# Altium footprint library Connector-XH.PcbLib: 22 footprints (part 1 of 2)
Each footprint in its own frame and in the unit in brackets; x right, y up, seen from the top. Pads: shape width x height; smd on the part's side, far side on the other; paste and mask are expansions set on the pad; w line width, h text height; cw(c..) or ccw(c..) is an arc to the next point about the centre after c.
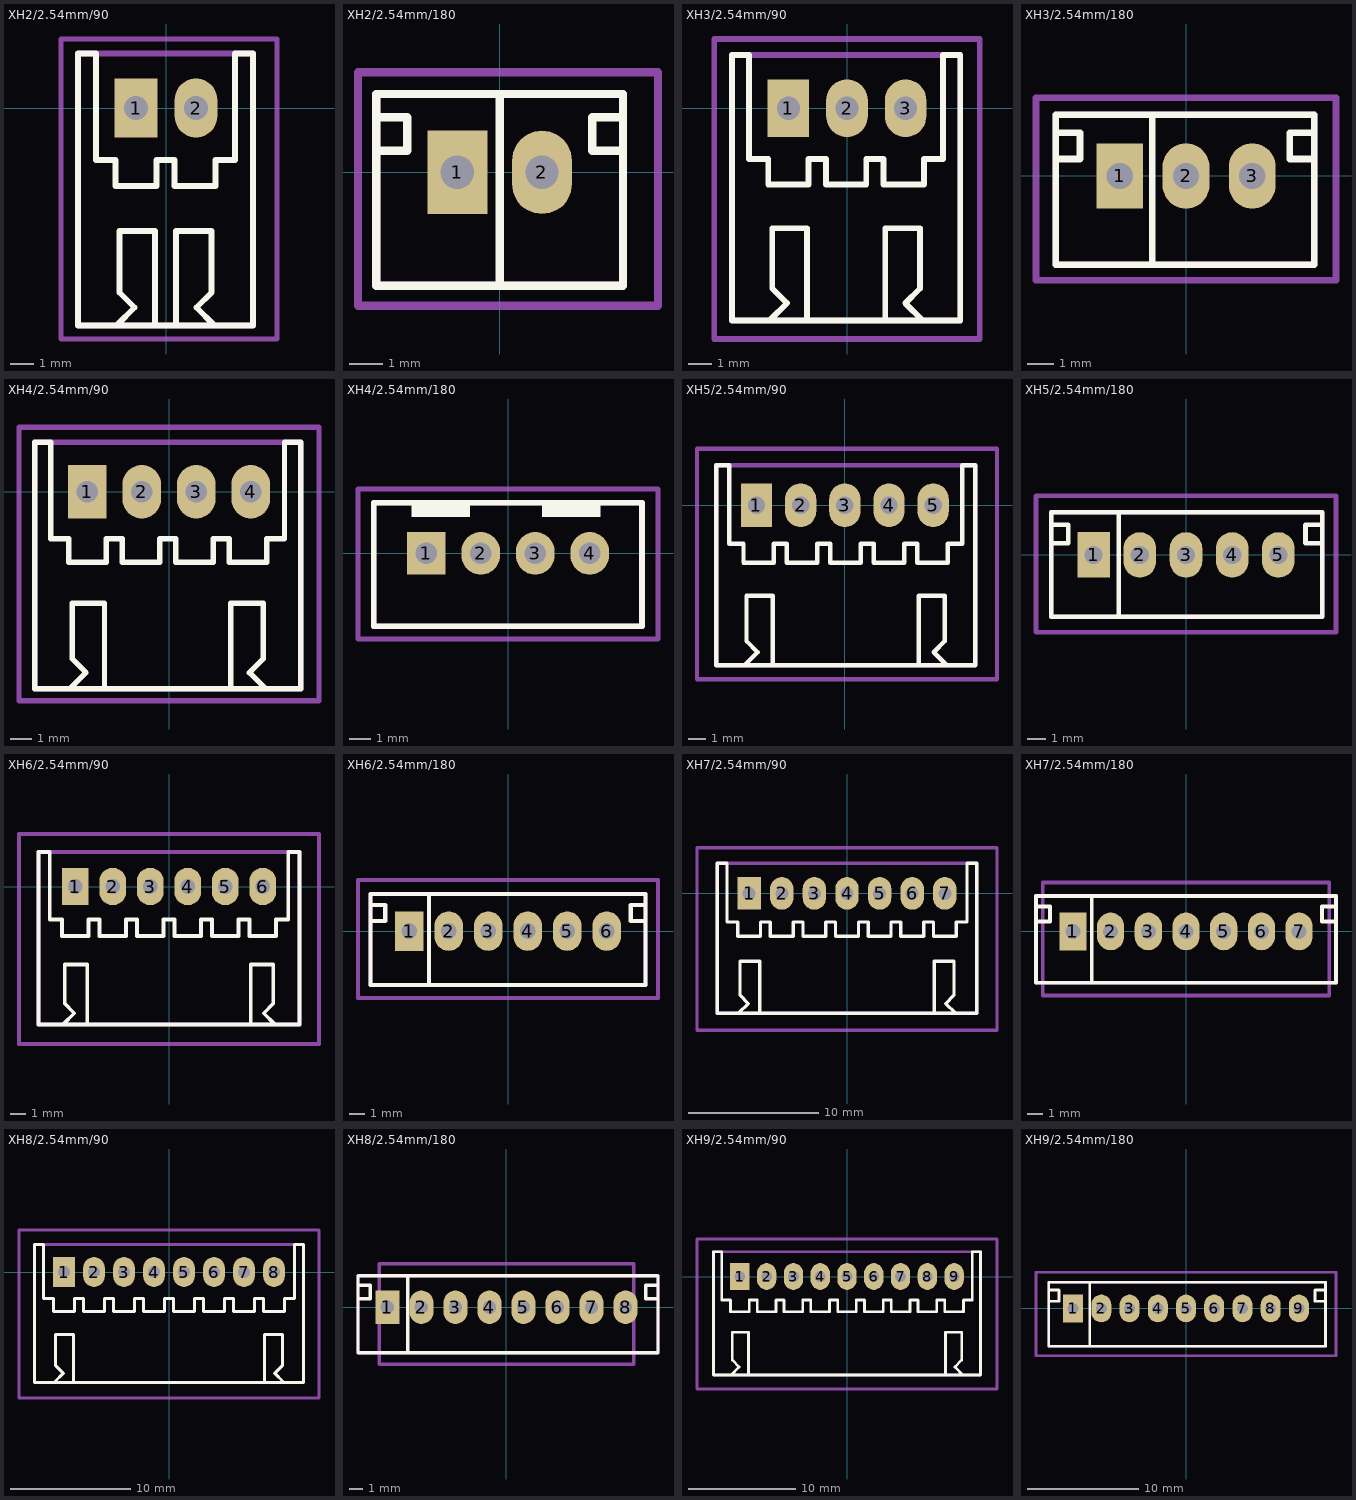
[diagram p0: the footprints below, top view; thin cyan lines are the x and y axes]

## XH2/2.54mm/90 [mm]
pads (2):
  rect 1.8x2.5 hole 1: 1(-1.27,0)
  oval 1.8x2.5 hole 1: 2(1.27,0)
Top Overlay:
  lines w0.254: -2.06,-9.172 -1.333,-8.445 -1.97,-7.809 -1.97,-5.2 -0.47,-5.2 -0.47,-9.2 ; 0.43,-9.2 0.43,-5.2 1.93,-5.2 1.93,-7.809 1.294,-8.445 2.02,-9.172 ; -3.72,-9.2 3.68,-9.2 3.68,2.3 2.93,2.3 2.93,-2.2 2.105,-2.2 2.105,-3.3 0.355,-3.3 0.355,-2.2 -0.395,-2.2 -0.395,-3.3 -2.145,-3.3 -2.145,-2.2 -2.97,-2.2 -2.97,2.3 -3.72,2.3 -3.72,-9.2
Top Value:
  text "'.Comment'" at 0.872,-10.154 h3
Top Designator:
  text "'.Designator'" at 0.628,-12.136 h3
Top Courtyard:
  lines w0.2: -4.445,-9.779 4.699,-9.779 4.699,2.921 4.445,2.921 -4.445,2.921 -4.445,-9.779
Top Assembly (Mech20):
  lines w0.254: -3.72,-9.2 3.68,-9.2 3.68,2.3 -3.72,2.3 -3.72,-9.2
  text "1" at -1.789,-0.82 h3
3D body "JST-S2B-XH-A.STEP": height 6.1, standoff -3.4, extent -3.72,-9.2 3.68,2.3

## XH2/2.54mm/180 [mm]
pads (2):
  rect 1.8x2.5 hole 1: 1(-1.27,0)
  oval 1.8x2.5 hole 1: 2(1.27,0)
Top Overlay:
  lines w0.254: -3.7,0.65 -2.774,0.65 -2.774,1.65 -3.7,1.65 ; 0,-3.4 0,2.35 ; 3.7,0.65 2.774,0.65 2.774,1.65 3.7,1.65 ; -3.7,-3.4 3.7,-3.4 3.7,2.35 -3.7,2.35 -3.7,-3.4
Top Courtyard:
  lines w0.254: -4.25,-4 -4.25,3 4.25,3 4.75,3 4.75,-4 -4.25,-4
Top Assembly (Mech20):
  lines w0.254: -3.7,-3.4 -3.7,2.35 3.7,2.35 3.7,-3.4 -3.7,-3.4
  text "1" at -1.789,-0.82 h3
3D body "JST-B2B-XH-A.STEP": height 7, standoff -3.4, extent -3.7,-3.4 3.7,2.35

## XH3/2.54mm/90 [mm]
pads (3):
  rect 1.8x2.5 hole 1: 1(-2.54,0)
  oval 1.8x2.5 hole 1: 2(0,0) 3(2.54,0)
Top Overlay:
  lines w0.254: -3.33,-9.172 -2.603,-8.445 -3.24,-7.809 -3.24,-5.2 -1.74,-5.2 -1.74,-9.2 ; 1.66,-9.2 1.66,-5.2 3.16,-5.2 3.16,-7.809 2.524,-8.445 3.25,-9.172 ; -4.99,-9.2 4.91,-9.2 4.91,2.3 4.16,2.3 4.16,-2.2 3.335,-2.2 3.335,-3.3 1.585,-3.3 1.585,-2.2 0.835,-2.2 0.835,-3.3 -0.915,-3.3 -0.915,-2.2 -1.665,-2.2 -1.665,-3.3 -3.415,-3.3 -3.415,-2.2 -4.24,-2.2 -4.24,2.3 -4.99,2.3 -4.99,-9.2
Top Value:
  text "'.Comment'" at -6.994,-4.372 h3
Top Designator:
  text "'.Designator'" at -8.976,-4.128 h3
Top Courtyard:
  lines w0.254: -5.75,-10 -5.75,3 5.75,3 5.75,-10 -5.75,-10
Top Assembly (Mech20):
  lines w0.254: -4.99,-9.2 -4.99,2.3 4.91,2.3 4.91,-9.2 -4.99,-9.2
  text "1" at -3.039,-0.82 h3
3D body "JST-S3B-XH-A.STEP": height 6.1, standoff -3.4, extent -4.99,-9.2 4.91,2.3

## XH3/2.54mm/180 [mm]
pads (3):
  rect 1.8x2.5 hole 1: 1(-2.54,0)
  oval 1.8x2.5 hole 1: 2(0,0) 3(2.54,0)
Top Overlay:
  lines w0.254: -4.99,0.65 -4.064,0.65 -4.064,1.65 -4.99,1.65 ; -1.29,-3.4 -1.29,2.35 ; 4.91,0.65 3.984,0.65 3.984,1.65 4.91,1.65 ; -4.99,-3.4 4.91,-3.4 4.91,2.35 -4.99,2.35 -4.99,-3.4
Top Value:
  text "'.Comment'" at -6.654,-0.872 h3
Top Designator:
  text "'.Designator'" at -8.636,-0.628 h3
Top Courtyard:
  lines w0.254: -5.75,-4 -5.75,3 5.75,3 5.75,-4 -5.75,-4
Top Assembly (Mech20):
  lines w0.254: -4.99,-3.4 -4.99,2.345 4.91,2.345 4.91,-3.4 -4.99,-3.4
  text "1" at -3.039,-0.82 h3
3D body "JST-B3B-XH-A.STEP": height 7, standoff -3.4, extent -4.99,-3.4 4.91,2.35

## XH4/2.54mm/90 [mm]
pads (4):
  rect 1.8x2.5 hole 1: 1(-3.81,0)
  oval 1.8x2.5 hole 1: 2(-1.27,0) 3(1.27,0) 4(3.81,0)
Top Overlay:
  lines w0.254: -4.6,-9.172 -3.873,-8.445 -4.51,-7.809 -4.51,-5.2 -3.01,-5.2 -3.01,-9.2 ; 2.89,-9.2 2.89,-5.2 4.39,-5.2 4.39,-7.809 3.754,-8.445 4.48,-9.172 ; -6.26,-9.2 6.14,-9.2 6.14,2.3 5.39,2.3 5.39,-2.2 4.565,-2.2 4.565,-3.3 2.815,-3.3 2.815,-2.2 2.065,-2.2 2.065,-3.3 0.315,-3.3 0.315,-2.2 -0.435,-2.2 -0.435,-3.3 -2.185,-3.3 -2.185,-2.2 -2.935,-2.2 -2.935,-3.3 -4.685,-3.3 -4.685,-2.2 -5.51,-2.2 -5.51,2.3 -6.26,2.3 -6.26,-9.2
Top Value:
  text "'.Comment'" at -6.654,-3.872 h3
Top Designator:
  text "'.Designator'" at -8.636,-3.628 h3
Top Courtyard:
  lines w0.254: -7,-9.75 7,-9.75 7,3 -7,3 -7,-9.75
Top Assembly (Mech20):
  lines w0.254: -6.26,-9.191 -6.26,2.3 6.14,2.3 6.14,-9.191 -6.26,-9.191
  text "1" at -4.349,-0.82 h3
3D body "JST-S4B-XH-A.STEP": height 6.1, standoff -3.4, extent -6.26,-9.2 6.14,2.3

## XH4/2.54mm/180 [mm]
pads (4):
  rect 1.8x2 hole 1: 1(-3.81,0)
  oval 1.8x2 hole 1: 2(-1.27,0) 3(1.27,0) 4(3.81,0)
Top Overlay:
  rectangle: 1.582,1.692 4.318,2.342
  rectangle: -4.514,1.692 -1.778,2.342
  lines w0.24: -6.26,0 -6.26,2.35
  lines w0.254: -6.26,0 -6.26,-3.4 ; 6.248,-3.4 6.248,2.325 ; -6.26,-3.4 6.26,-3.4 ; -6.26,-3.4 -6.26,2.35 ; -6.26,2.35 -6.26,2.35 ; -6.26,2.35 6.26,2.35 ; 6.26,-3.4 6.26,2.35 ; 6.26,-3.4 6.26,0 6.26,2.35
Top Value:
  text "'.Comment'" at -6.654,-0.872 h3
Top Designator:
  text "'.Designator'" at -8.636,-0.628 h3
Top Courtyard:
  lines w0.254: -7,-4 -7,3 7,3 7,-4 -7,-4
Top Assembly (Mech20):
  lines w0.254: -6.26,2.35 6.25,2.35 6.25,-3.4 -6.26,-3.4 -6.26,2.35 ; -6.26,2.35 -6.26,2.35
  text "1" at -4.289,-0.82 h3
3D body "User Library-B4B-XH-A.STEP": height 7, standoff -3.4, extent -6.2,-3.302 6.2,2.448

## XH5/2.54mm/90 [mm]
pads (5):
  rect 1.8x2.5 hole 1: 1(-5.08,0)
  oval 1.8x2.5 hole 1: 2(-2.54,0) 3(0,0) 4(2.54,0) 5(5.08,0)
Top Overlay:
  lines w0.254: -5.743,-9.172 -5.016,-8.445 -5.653,-7.809 -5.653,-5.2 -4.153,-5.2 -4.153,-9.2 ; 4.247,-9.2 4.247,-5.2 5.747,-5.2 5.747,-7.809 5.111,-8.445 5.837,-9.172 ; -7.403,-9.2 7.497,-9.2 7.497,2.3 6.747,2.3 6.747,-2.2 5.922,-2.2 5.922,-3.3 4.172,-3.3 4.172,-2.2 3.422,-2.2 3.422,-3.3 1.672,-3.3 1.672,-2.2 0.922,-2.2 0.922,-3.3 -0.828,-3.3 -0.828,-2.2 -1.578,-2.2 -1.578,-3.3 -3.328,-3.3 -3.328,-2.2 -4.078,-2.2 -4.078,-3.3 -5.828,-3.3 -5.828,-2.2 -6.653,-2.2 -6.653,2.3 -7.403,2.3 -7.403,-9.2
Top Value:
  text "'.Comment'" at -6.654,-3.872 h3
Top Designator:
  text "'.Designator'" at -8.636,-3.628 h3
Top Courtyard:
  lines w0.254: -8.5,-10 -8.5,3.25 8.75,3.25 8.75,-10 -8.5,-10
Top Assembly (Mech20):
  lines w0.254: -7.403,-9.2 7.497,-9.2 7.497,2.294 -7.403,2.294 -7.403,-9.2
  text "1" at -5.539,-0.82 h3
3D body "JST-S5B-XH-A.STEP": height 6.1, standoff -3.4, extent -7.403,-9.2 7.497,2.3

## XH5/2.54mm/180 [mm]
pads (5):
  rect 1.8x2.5 hole 1: 1(-5.08,0)
  oval 1.8x2.5 hole 1: 2(-2.54,0) 3(0,0) 4(2.54,0) 5(5.08,0)
Top Overlay:
  lines w0.254: -7.403,0.65 -6.477,0.65 -6.477,1.65 -7.403,1.65 ; -3.703,-3.4 -3.703,2.35 ; 7.497,0.65 6.571,0.65 6.571,1.65 7.497,1.65 ; -7.403,-3.4 7.497,-3.4 7.497,2.35 -7.403,2.35 -7.403,-3.4
Top Value:
  text "'.Comment'" at -6.654,-0.872 h3
Top Designator:
  text "'.Designator'" at -8.636,-0.628 h3
Top Courtyard:
  lines w0.254: -8.25,-4.25 8.25,-4.25 8.25,3.25 -8.25,3.25 -8.25,-4.25
Top Assembly (Mech20):
  lines w0.254: -7.403,-3.4 -7.403,2.35 7.497,2.35 7.497,-3.4 -7.403,-3.4
  text "1" at -5.539,-0.82 h3
3D body "JST-B5B-XH-A.STEP": height 7, standoff -3.4, extent -7.403,-3.4 7.497,2.35

## XH6/2.54mm/90 [mm]
pads (6):
  rect 1.8x2.5 hole 1: 1(-6.25,0)
  oval 1.8x2.5 hole 1: 2(-3.75,0) 3(-1.25,0) 4(1.25,0) 5(3.75,0) 6(6.25,0)
Top Overlay:
  lines w0.254: -7.04,-9.172 -6.314,-8.445 -6.95,-7.809 -6.95,-5.2 -5.45,-5.2 -5.45,-9.2 ; 5.45,-9.2 5.45,-5.2 6.95,-5.2 6.95,-7.809 6.314,-8.445 7.04,-9.172 ; -8.7,-9.2 -8.7,2.3 -7.95,2.3 -7.95,-2.2 -7.125,-2.2 -7.125,-3.3 -5.375,-3.3 -5.375,-2.2 -4.625,-2.2 -4.625,-3.3 -2.875,-3.3 -2.875,-2.2 -2.125,-2.2 -2.125,-3.3 -0.375,-3.3 -0.375,-2.2 0.375,-2.2 0.375,-3.3 2.125,-3.3 2.125,-2.2 2.875,-2.2 2.875,-3.3 4.625,-3.3 4.625,-2.2 5.375,-2.2 5.375,-3.3 7.125,-3.3 7.125,-2.2 7.95,-2.2 7.95,2.3 8.7,2.3 8.7,-9.2 -8.7,-9.2
Top Value:
  text "'.Comment'" at -6.654,-4.872 h3
Top Designator:
  text "'.Designator'" at -8.636,-4.628 h3
Top Courtyard:
  lines w0.254: -10,-10.5 10,-10.5 10,-9.75 10,3.5 -10,3.5 -10,-10.5
Top Assembly (Mech20):
  lines w0.254: -8.7,-9.2 -8.7,2.3 8.7,2.3 8.7,-9.2 -8.7,-9.2
  text "1" at -6.789,-0.82 h3
3D body "JST-S6B-XH-A.STEP": height 6.1, standoff -3.4, extent -8.7,-9.2 8.7,2.3

## XH6/2.54mm/180 [mm]
pads (6):
  rect 1.8x2.5 hole 1: 1(-6.25,0)
  oval 1.8x2.5 hole 1: 2(-3.75,0) 3(-1.25,0) 4(1.25,0) 5(3.75,0) 6(6.25,0)
Top Overlay:
  lines w0.254: -8.7,0.65 -7.774,0.65 -7.774,1.65 -8.7,1.65 ; -5,-3.4 -5,2.35 ; 8.7,0.65 7.774,0.65 7.774,1.65 8.7,1.65 ; -8.7,-3.4 -8.7,2.35 8.7,2.35 8.7,-3.4 -8.7,-3.4
Top Value:
  text "'.Comment'" at -6.654,-0.872 h3
Top Designator:
  text "'.Designator'" at -8.636,-0.628 h3
Top Courtyard:
  lines w0.254: -9.5,-4.25 9.5,-4.25 9.5,3.25 -9.5,3.25 -9.5,-4.25
Top Assembly (Mech20):
  lines w0.254: -8.7,-3.4 -8.7,2.35 8.7,2.35 8.7,-3.4 -8.7,-3.4
  text "1" at -6.789,-0.82 h3
3D body "JST-B6B-XH-A.STEP": height 7, standoff -3.4, extent -8.7,-3.4 8.7,2.35

## XH7/2.54mm/90 [mm]
pads (7):
  rect 1.8x2.5 hole 1: 1(-7.5,0)
  oval 1.8x2.5 hole 1: 2(-5,0) 3(-2.5,0) 4(0,0) 5(2.5,0) 6(5,0) 7(7.5,0)
Top Overlay:
  lines w0.254: -8.29,-9.172 -7.564,-8.445 -8.2,-7.809 -8.2,-5.2 -6.7,-5.2 -6.7,-9.2 ; 6.7,-9.2 6.7,-5.2 8.2,-5.2 8.2,-7.809 7.564,-8.445 8.29,-9.172 ; -9.95,-9.2 9.95,-9.2 9.95,2.3 9.2,2.3 9.2,-2.2 8.375,-2.2 8.375,-3.3 6.625,-3.3 6.625,-2.2 5.875,-2.2 5.875,-3.3 4.125,-3.3 4.125,-2.2 3.375,-2.2 3.375,-3.3 1.625,-3.3 1.625,-2.2 0.875,-2.2 0.875,-3.3 -0.875,-3.3 -0.875,-2.2 -1.625,-2.2 -1.625,-3.3 -3.375,-3.3 -3.375,-2.2 -4.125,-2.2 -4.125,-3.3 -5.875,-3.3 -5.875,-2.2 -6.625,-2.2 -6.625,-3.3 -8.375,-3.3 -8.375,-2.2 -9.2,-2.2 -9.2,2.3 -9.95,2.3 -9.95,-9.2
Top Value:
  text "'.Comment'" at -6.654,-5.872 h3
Top Designator:
  text "'.Designator'" at -8.636,-5.628 h3
Top Courtyard:
  lines w0.254: -11.5,-10.5 -11.5,3.5 11.5,3.5 11.5,-10.5 -11.5,-10.5
Top Assembly (Mech20):
  lines w0.254: -9.95,-9.2 -9.95,2.3 9.95,2.3 9.95,-9.2 -9.95,-9.2
  text "1" at -8.039,-0.82 h3
3D body "JST-S7B-XH-A.STEP": height 6.1, standoff -3.4, extent -9.95,-9.2 9.95,2.3

## XH7/2.54mm/180 [mm]
pads (7):
  rect 1.8x2.5 hole 1: 1(-7.5,0)
  oval 1.8x2.5 hole 1: 2(-5,0) 3(-2.5,0) 4(0,0) 5(2.5,0) 6(5,0) 7(7.5,0)
Top Overlay:
  lines w0.254: -9.95,0.65 -9.024,0.65 -9.024,1.65 -9.95,1.65 ; -6.25,-3.4 -6.25,2.35 ; 9.95,0.65 9.024,0.65 9.024,1.65 9.95,1.65 ; -9.95,-3.4 -9.95,2.35 9.95,2.35 9.95,-3.4 -9.95,-3.4
Top Value:
  text "'.Comment'" at -6.654,-0.872 h3
Top Designator:
  text "'.Designator'" at -8.636,-0.628 h3
Top Courtyard:
  lines w0.254: -9.5,-4.25 9.5,-4.25 9.5,3.25 -9.5,3.25 -9.5,-4.25
Top Assembly (Mech20):
  lines w0.254: -9.95,-3.4 -9.95,2.35 9.95,2.35 9.95,-3.4 -9.95,-3.4
  text "1" at -8.039,-0.82 h3
3D body "JST-B7B-XH-A.STEP": height 7, standoff -3.4, extent -9.95,-3.4 9.95,2.35

## XH8/2.54mm/90 [mm]
pads (8):
  rect 1.8x2.5 hole 1: 1(-8.75,0)
  oval 1.8x2.5 hole 1: 2(-6.25,0) 3(-3.75,0) 4(-1.25,0) 5(1.25,0) 6(3.75,0) 7(6.25,0) 8(8.75,0)
Top Overlay:
  lines w0.254: -9.54,-9.172 -8.814,-8.445 -9.45,-7.809 -9.45,-5.2 -7.95,-5.2 -7.95,-9.2 ; 7.95,-9.2 7.95,-5.2 9.45,-5.2 9.45,-7.809 8.814,-8.445 9.54,-9.172 ; -11.2,-9.2 11.2,-9.2 11.2,2.3 10.45,2.3 10.45,-2.2 9.625,-2.2 9.625,-3.3 7.875,-3.3 7.875,-2.2 7.125,-2.2 7.125,-3.3 5.375,-3.3 5.375,-2.2 4.625,-2.2 4.625,-3.3 2.875,-3.3 2.875,-2.2 2.125,-2.2 2.125,-3.3 0.375,-3.3 0.375,-2.2 -0.375,-2.2 -0.375,-3.3 -2.125,-3.3 -2.125,-2.2 -2.875,-2.2 -2.875,-3.3 -4.625,-3.3 -4.625,-2.2 -5.375,-2.2 -5.375,-3.3 -7.125,-3.3 -7.125,-2.2 -7.875,-2.2 -7.875,-3.3 -9.625,-3.3 -9.625,-2.2 -10.45,-2.2 -10.45,2.3 -11.2,2.3 -11.2,-9.2
Top Value:
  text "'.Comment'" at -6.654,-5.872 h3
Top Designator:
  text "'.Designator'" at -8.636,-5.628 h3
Top Courtyard:
  lines w0.254: -12.5,-10.5 -12.5,3.5 12.5,3.5 12.5,-10.5 -12.5,-10.5
Top Assembly (Mech20):
  lines w0.254: -11.2,-9.2 -11.2,2.3 11.2,2.3 11.2,-9.2 -11.2,-9.2
3D body "JST-S8B-XH-A.STEP": height 6.1, standoff -3.4, extent -11.2,-9.2 11.2,2.3

## XH8/2.54mm/180 [mm]
pads (8):
  rect 1.8x2.5 hole 1: 1(-8.89,0)
  oval 1.8x2.5 hole 1: 2(-6.35,0) 3(-3.81,0) 4(-1.27,0) 5(1.27,0) 6(3.81,0) 7(6.35,0) 8(8.89,0)
Top Overlay:
  lines w0.254: -11.086,0.65 -10.16,0.65 -10.16,1.65 -11.086,1.65 ; -7.386,-3.4 -7.386,2.35 ; 11.314,0.65 10.388,0.65 10.388,1.65 11.314,1.65 ; -11.086,-3.4 -11.086,2.35 11.314,2.35 11.314,-3.4 -11.086,-3.4
Top Value:
  text "'.Comment'" at -6.654,-0.872 h3
Top Designator:
  text "'.Designator'" at -8.636,-0.628 h3
Top Courtyard:
  lines w0.254: -9.5,-4.25 9.5,-4.25 9.5,3.25 -9.5,3.25 -9.5,-4.25
Top Assembly (Mech20):
  lines w0.254: -11.086,-3.4 -11.086,2.35 11.314,2.35 11.314,-3.4 -11.086,-3.4
3D body "JST-B8B-XH-A.STEP": height 7, standoff -3.4, extent -11.086,-3.4 11.314,2.35

## XH9/2.54mm/90 [mm]
pads (9):
  rect 1.8x2.5 hole 1: 1(-10,0)
  oval 1.8x2.5 hole 1: 2(-7.5,0) 3(-5,0) 4(-2.5,0) 5(0,0) 6(2.5,0) 7(5,0) 8(7.5,0) 9(10,0)
Top Overlay:
  lines w0.254: -10.79,-9.172 -10.064,-8.445 -10.7,-7.809 -10.7,-5.2 -9.2,-5.2 -9.2,-9.2 ; 9.2,-9.2 9.2,-5.2 10.7,-5.2 10.7,-7.809 10.064,-8.445 10.79,-9.172 ; -12.45,-9.2 12.45,-9.2 12.45,2.3 11.7,2.3 11.7,-2.2 10.875,-2.2 10.875,-3.3 9.125,-3.3 9.125,-2.2 8.375,-2.2 8.375,-3.3 6.625,-3.3 6.625,-2.2 5.875,-2.2 5.875,-3.3 4.125,-3.3 4.125,-2.2 3.375,-2.2 3.375,-3.3 1.625,-3.3 1.625,-2.2 0.875,-2.2 0.875,-3.3 -0.875,-3.3 -0.875,-2.2 -1.625,-2.2 -1.625,-3.3 -3.375,-3.3 -3.375,-2.2 -4.125,-2.2 -4.125,-3.3 -5.875,-3.3 -5.875,-2.2 -6.625,-2.2 -6.625,-3.3 -8.375,-3.3 -8.375,-2.2 -9.125,-2.2 -9.125,-3.3 -10.875,-3.3 -10.875,-2.2 -11.7,-2.2 -11.7,2.3 -12.45,2.3 -12.45,-9.2
Top Value:
  text "'.Comment'" at -6.654,-5.872 h3
Top Designator:
  text "'.Designator'" at -8.636,-5.628 h3
Top Courtyard:
  lines w0.254: -14,-10.5 -14,3.5 14,3.5 14,-10.5 -14,-10.5
Top Assembly (Mech20):
  lines w0.254: -12.45,-9.2 -12.45,2.3 12.45,2.3 12.45,-9.2 -12.45,-9.2
3D body "JST-S9B-XH-A.STEP": height 6.1, standoff -3.4, extent -12.45,-9.2 12.45,2.3

## XH9/2.54mm/180 [mm]
pads (9):
  rect 1.8x2.5 hole 1: 1(-10.16,0)
  oval 1.8x2.5 hole 1: 2(-7.62,0) 3(-5.08,0) 4(-2.54,0) 5(0,0) 6(2.54,0) 7(5.08,0) 8(7.62,0) 9(10.16,0)
Top Overlay:
  lines w0.254: -12.356,0.65 -11.43,0.65 -11.43,1.65 -12.356,1.65 ; -8.656,-3.4 -8.656,2.35 ; 12.544,0.65 11.618,0.65 11.618,1.65 12.544,1.65 ; -12.356,-3.4 -12.356,2.35 12.544,2.35 12.544,-3.4 -12.356,-3.4
Top Value:
  text "'.Comment'" at -6.654,-0.872 h3
Top Designator:
  text "'.Designator'" at -8.636,-0.628 h3
Top Courtyard:
  lines w0.254: -13.5,-4.25 13.5,-4.25 13.5,3.25 -13.5,3.25 -13.5,-4.25
Top Assembly (Mech20):
  lines w0.254: -12.356,-3.4 -12.356,2.35 12.544,2.35 12.544,-3.4 -12.356,-3.4
3D body "JST-B9B-XH-A.STEP": height 7, standoff -3.4, extent -12.356,-3.4 12.544,2.35